# Altium schematic symbol library KF2EDGK.SchLib: 15 symbols
Pins are listed as number, name and electrical type; pins without a type are passive.

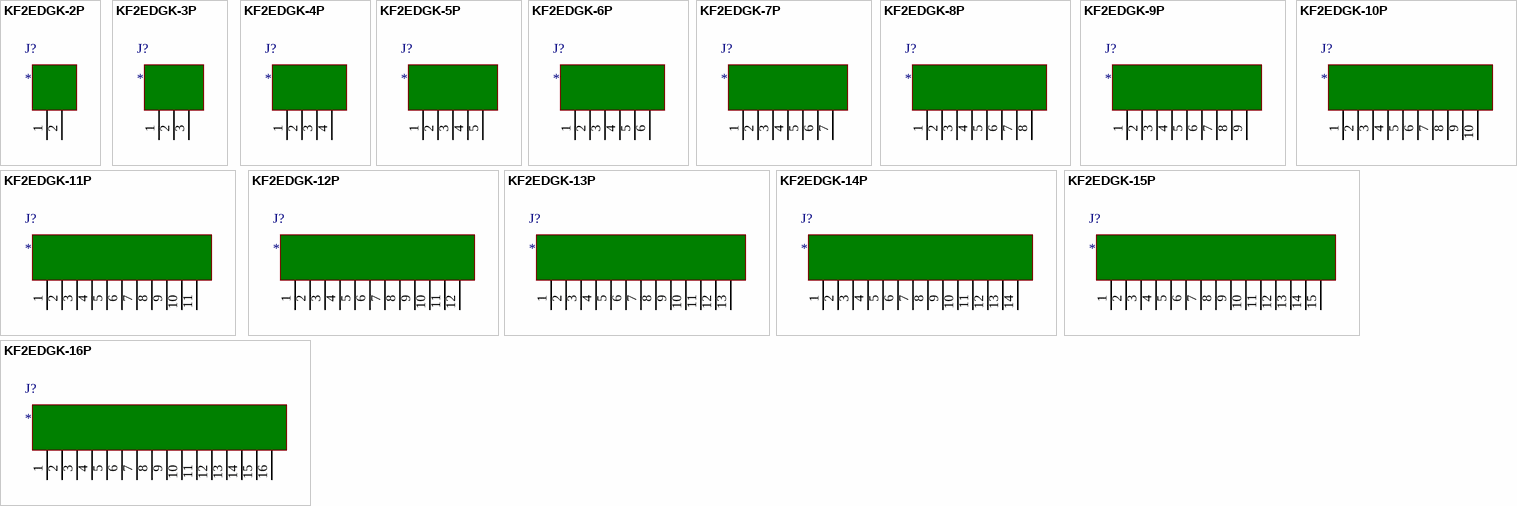
[diagram p0: symbols KF2EDGK-2P to KF2EDGK-16P]

## KF2EDGK-2P
designator J?
pins: 1, 2

## KF2EDGK-3P
designator J?
pins: 1, 2, 3

## KF2EDGK-4P
designator J?
pins: 1, 2, 3, 4

## KF2EDGK-5P
designator J?
pins: 1, 2, 3, 4, 5

## KF2EDGK-6P
designator J?
pins: 1, 2, 3, 4, 5, 6

## KF2EDGK-7P
designator J?
pins: 1, 2, 3, 4, 5, 6, 7

## KF2EDGK-8P
designator J?
pins: 1, 2, 3, 4, 5, 6, 7, 8

## KF2EDGK-9P
designator J?
pins: 1, 2, 3, 4, 5, 6, 7, 8, 9

## KF2EDGK-10P
designator J?
pins: 1, 2, 3, 4, 5, 6, 7, 8, 9, 10

## KF2EDGK-11P
designator J?
pins: 1, 2, 3, 4, 5, 6, 7, 8, 9, 10, 11

## KF2EDGK-12P
designator J?
pins: 1, 2, 3, 4, 5, 6, 7, 8, 9, 10, 11, 12

## KF2EDGK-13P
designator J?
pins: 1, 2, 3, 4, 5, 6, 7, 8, 9, 10, 11, 12, 13

## KF2EDGK-14P
designator J?
pins: 1, 2, 3, 4, 5, 6, 7, 8, 9, 10, 11, 12, 13, 14

## KF2EDGK-15P
designator J?
pins: 1, 2, 3, 4, 5, 6, 7, 8, 9, 10, 11, 12, 13, 14, 15

## KF2EDGK-16P
designator J?
pins: 1, 2, 3, 4, 5, 6, 7, 8, 9, 10, 11, 12, 13, 14, 15, 16